# Altium schematic symbol library Q_NPN_DAR.Schlib: 1 symbol
Pins are listed as number, name and electrical type; pins without a type are passive.

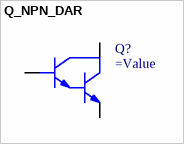
[diagram p0: symbol Q_NPN_DAR]

## Q_NPN_DAR
designator Q?
Transistor NPN Darlington
pins: BASE, COLLECTOR, EMITTER